# EAGLE library part WII-CONNECTOR (library MyLib)
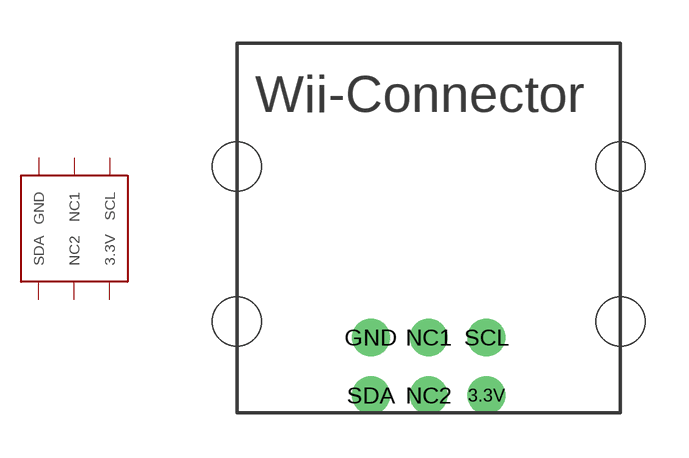
[diagram p7: symbol with the pads of WII-CONNECTOR; footprint WII-CONNECTOR]

Designator prefix -

## WII-CONNECTOR  [WII-CONNECTOR]
3.3V  3.3V
GND  GND
NC1  NC1
NC2  NC2
SCL  SCL
SDA  SDA

## Footprint WII-CONNECTOR (pad centres in mm)
drill 0.8: 3.3V 2,-5.775; GND -2,-3.775; NC1 0,-3.775; NC2 0,-5.775; SCL 2,-3.775; SDA -2,-5.775
hole 1.7 at 6.625,-3.225
hole 1.7 at -6.625,-3.225
hole 1.7 at 6.625,2.125
hole 1.7 at -6.625,2.125